# Altium schematic symbol library QUTMS_PowerSupplyLibrary.SchLib: 2 symbols
Pins are listed as number, name and electrical type; pins without a type are passive.

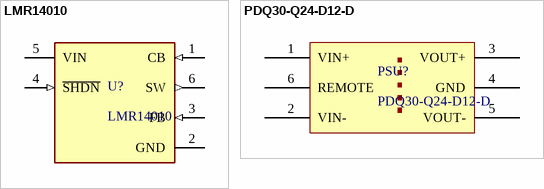
[diagram p0: symbols LMR14010 to PDQ30-Q24-D12-D]

## LMR14010
designator U?
footprint LMR14010
pins: 1 CB (in), 2 GND (power), 3 FB (in), 4 ~{SHDN} (in), 5 VIN (power), 6 SW (out)

## PDQ30-Q24-D12-D
designator PSU?
footprint PDQ30-Q24-D12-D
pins: 1 VIN+, 2 VIN-, 3 VOUT+, 4 GND, 5 VOUT-, 6 REMOTE